# Altium schematic symbol library Resistor SMD.SchLib: 98 symbols (part 2 of 2)
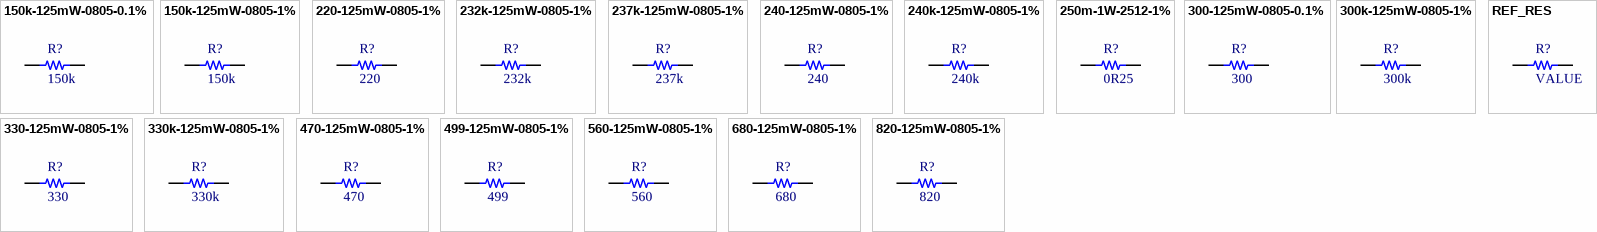
[diagram p3: symbols 150k-125mW-0805-0.1% to REF_RES]

## 499-125mW-0805-1%
designator R?, comment 499
Resistor, 499, 125mW Power Rating, 0805 Package; ManufacturerName: Rohm Semiconductor; ManufacturerReference: MCR10EZHF4990; InventoryNumber: RES016; Value: 499 Ohm; PowerRating: 125mWatt; Other: 1%; DistributorName: Digikey; DistributorReference: RHM499CTR-ND; PackageReference: 0805; Category: Resistor
footprint RES 0805/2012 (Chip Resistor, 2-Leads, Body 2.00x1.25mm, IPC Medium Density)
footprint RES 0805/2012 RF (Chip Resistor, 2-Leads, Body 2.00x1.25mm, IPC High Density)
pins: 1, 2

## 560-125mW-0805-1%
designator R?, comment 560
Resistor, 560, 125mW Power Rating, 0805 Package; ManufacturerName: Rohm Semiconductor; ManufacturerReference: MCR10EZPF5600; InventoryNumber: RES017; Value: 560 Ohm; PowerRating: 125mWatt; Other: 1%; DistributorName: Digikey; DistributorReference: RHM560CRTR-ND; PackageReference: 0805; Category: Resistor
footprint RES 0805/2012 (Chip Resistor, 2-Leads, Body 2.00x1.25mm, IPC Medium Density)
footprint RES 0805/2012 RF (Chip Resistor, 2-Leads, Body 2.00x1.25mm, IPC High Density)
pins: 1, 2

## 680-125mW-0805-1%
designator R?, comment 680
Resistor, 680, 125mW Power Rating, 0805 Package; ManufacturerName: Rohm Semiconductor; ManufacturerReference: MCR10EZPF6800; InventoryNumber: RES018; Value: 680 Ohm; PowerRating: 125mWatt; Other: 1%; DistributorName: Digikey; DistributorReference: RHM680CRTR-ND; PackageReference: 0805; Category: Resistor
footprint RES 0805/2012 (Chip Resistor, 2-Leads, Body 2.00x1.25mm, IPC Medium Density)
footprint RES 0805/2012 RF (Chip Resistor, 2-Leads, Body 2.00x1.25mm, IPC High Density)
pins: 1, 2

## 820-125mW-0805-1%
designator R?, comment 820
Resistor, 820, 125mW Power Rating, 0805 Package; ManufacturerName: Rohm Semiconductor; ManufacturerReference: MCR10EZHF8200; InventoryNumber: RES019; Value: 820 Ohm; PowerRating: 125mWatt; Other: 1%; DistributorName: Digikey; DistributorReference: RHM820CTR-ND; PackageReference: 0805; Category: Resistor
footprint RES 0805/2012 (Chip Resistor, 2-Leads, Body 2.00x1.25mm, IPC Medium Density)
footprint RES 0805/2012 RF (Chip Resistor, 2-Leads, Body 2.00x1.25mm, IPC High Density)
pins: 1, 2

## REF_RES
designator R?, comment VALUE
Resistor, , Power Rating, Package; DistributorName: Digikey; DistributorReference: *; InventoryNumber: *; Value: *; PowerRating: *; PackageReference: *; Other: *; Category: Resistor
pins: 1, 2